# EAGLE library part POLOLU-24V (library HuskyRobotics17-18)
Pololu 24V Step-Up Voltage Regulator U3V50F24. 0.1" spacingthrough hole connections. https://www.pololu.com/product/2569
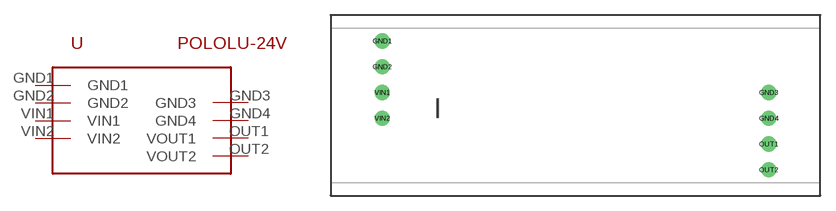
[diagram p2: symbol with the pads of POLOLU24; footprint POLOLU24]

Designator prefix -

## POLOLU-24V  [POLOLU24]
GND1  GND1
GND2  GND2
GND3  GND3
GND4  GND4
OUT1  VOUT1
OUT2  VOUT2
VIN1  VIN1
VIN2  VIN2

## Footprint POLOLU24 (pad centres in mm)
drill 1: GND1 -19.05,6.35; GND2 -19.05,3.81; GND3 19.05,1.27; GND4 19.05,-1.27; OUT1 19.05,-3.81; OUT2 19.05,-6.35; VIN1 -19.05,1.27; VIN2 -19.05,-1.27